# Altium schematic symbol library MP9447GL-P.SchLib: 2 symbols
Pins are listed as number, name and electrical type; pins without a type are passive.

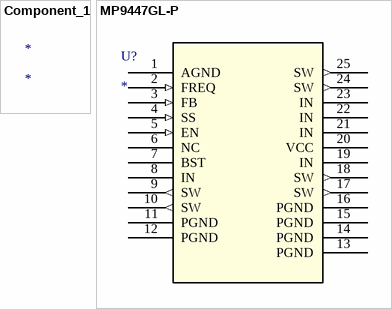
[diagram p0: symbols Component_1 to MP9447GL-P]

## Component_1
designator *

## MP9447GL-P
designator U?
No Description Available; Mfr_Name: Monolithic Power Systems; RefDes: RefDes; Type: Type
footprint QFN25_MP9447_MNP
pins: 1 AGND (power), 2 FREQ (in), 3 FB (in), 4 SS (in), 5 EN (in), 6 NC, 7 BST (power), 8 IN (power), 9 SW (out), 10 SW (out), 11 PGND (power), 12 PGND (power), 13 PGND (power), 14 PGND (power), 15 PGND (power), 16 PGND (power), 17 SW (out), 18 SW (out), 19 IN (power), 20 VCC (power), 21 IN (power), 22 IN (power), 23 IN (power), 24 SW (out), 25 SW (out)